# EAGLE library part 1190301 (library 1190301)
Fixed Terminal Blocks LPT 2,5/ 6-5,0 Source: Datasheet <https://www.phoenixcontact.com/us/products/1190301>
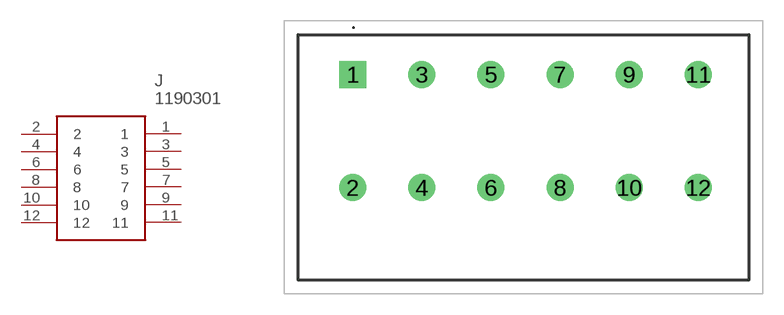
[diagram p0: symbol with the pads of 1190301; footprint 1190301]

Designator prefix J

## 1190301 (Description: Fixed Terminal Blocks LPT 2,5/ 6-5,0; Height: 16.64mm; Manufacturer_Name: Phoenix Contact; Manufacturer_Part_Number: 1190301; Mouser_Part_Number: 651-1190301; Mouser_Price-Stock: https://www.mouser.co.uk/ProductDetail/Phoenix-Contact/1190301?qs=QNEnbhJQKvbrt33TQcyRIw%3D%3D)  [1190301]
1  1
2  2
3  3
4  4
5  5
6  6
7  7
8  8
9  9
10  10
11  11
12  12

## Footprint 1190301 (pad centres in mm)
1190301-2
drill 1.3 pad 1.95 square: 1 0,0
drill 1.3 pad 1.95: 2 0,-8.2; 3 5,0; 4 5,-8.2; 5 10,0; 6 10,-8.2; 7 15,0; 8 15,-8.2; 9 20,0; 10 20,-8.2; 11 25,0; 12 25,-8.2